# EAGLE library part PIC16F873A (library Fitch_Eagle_Library)
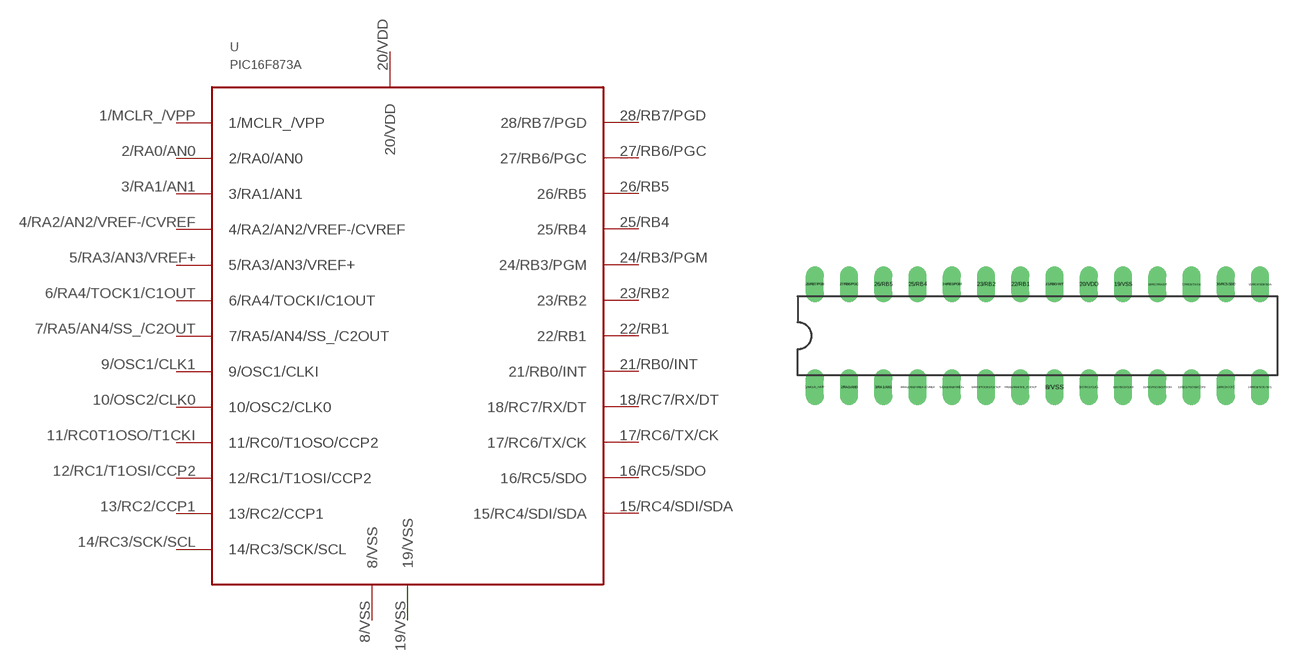
[diagram p19: symbol with the pads of PIC16F873A-PDIP; footprint PIC16F873A-PDIP]

Designator prefix -

## PIC16F873A  [PIC16F873A-PDIP]
1/MCLR_/VPP  1/MCLR_/VPP
2/RA0/AN0  2/RA0/AN0
3/RA1/AN1  3/RA1/AN1
4/RA2/AN2/VREF-/CVREF  4/RA2/AN2/VREF-/CVREF
5/RA3/AN3/VREF+  5/RA3/AN3/VREF+
6/RA4/TOCK1/C1OUT  6/RA4/TOCKI/C1OUT
7/RA5/AN4/SS_/C2OUT  7/RA5/AN4/SS_/C2OUT
8/VSS  8/VSS
9/OSC1/CLK1  9/OSC1/CLKI
10/OSC2/CLK0  10/OSC2/CLK0
11/RC0T1OSO/T1CKI  11/RC0/T1OSO/CCP2
12/RC1/T1OSI/CCP2  12/RC1/T1OSI/CCP2
13/RC2/CCP1  13/RC2/CCP1
14/RC3/SCK/SCL  14/RC3/SCK/SCL
15/RC4/SDI/SDA  15/RC4/SDI/SDA
16/RC5/SDO  16/RC5/SDO
17/RC6/TX/CK  17/RC6/TX/CK
18/RC7/RX/DT  18/RC7/RX/DT
19/VSS  19/VSS
20/VDD  20/VDD
21/RB0/INT  21/RB0/INT
22/RB1  22/RB1
23/RB2  23/RB2
24/RB3/PGM  24/RB3/PGM
25/RB4  25/RB4
26/RB5  26/RB5
27/RB6/PGC  27/RB6/PGC
28/RB7/PGD  28/RB7/PGD

## Footprint PIC16F873A-PDIP (pad centres in mm)
drill 0.813 long: 1/MCLR_/VPP -16.51,-3.81; 2/RA0/AN0 -13.97,-3.81; 3/RA1/AN1 -11.43,-3.81; 4/RA2/AN2/VREF-/CVREF -8.89,-3.81; 5/RA3/AN3/VREF+ -6.35,-3.81; 6/RA4/TOCK1/C1OUT -3.81,-3.81; 7/RA5/AN4/SS_/C2OUT -1.27,-3.81; 8/VSS 1.27,-3.81; 9/OSC1/CLK1 3.81,-3.81; 10/OSC2/CLK0 6.35,-3.81; 11/RC0T1OSO/T1CKI 8.89,-3.81; 12/RC1/T1OSI/CCP2 11.43,-3.81; 13/RC2/CCP1 13.97,-3.81; 14/RC3/SCK/SCL 16.51,-3.81; 15/RC4/SDI/SDA 16.51,3.81; 16/RC5/SDO 13.97,3.81; 17/RC6/TX/CK 11.43,3.81; 18/RC7/RX/DT 8.89,3.81; 19/VSS 6.35,3.81; 20/VDD 3.81,3.81; 21/RB0/INT 1.27,3.81; 22/RB1 -1.27,3.81; 23/RB2 -3.81,3.81; 24/RB3/PGM -6.35,3.81; 25/RB4 -8.89,3.81; 26/RB5 -11.43,3.81; 27/RB6/PGC -13.97,3.81; 28/RB7/PGD -16.51,3.81